# Altium footprint library MOS motor driving module .PcbLib: 19 footprints (part 2 of 2)
Each footprint in its own frame and in the unit in brackets; x right, y up, seen from the top. Pads: shape width x height; smd on the part's side, far side on the other; paste and mask are expansions set on the pad; w line width, h text height; cw(c..) or ccw(c..) is an arc to the next point about the centre after c.
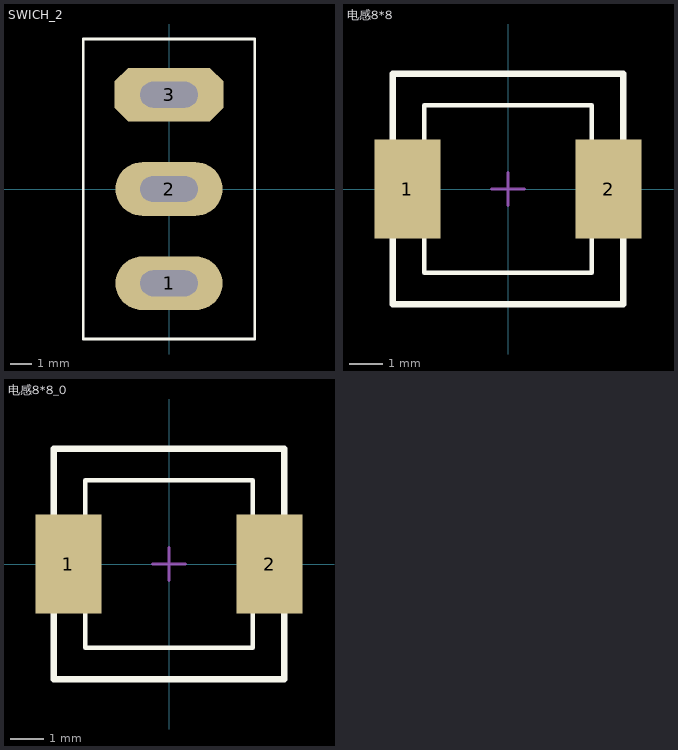
[diagram p1: the footprints below, top view; thin cyan lines are the x and y axes]

## SWICH_2 [mm]
pads (3):
  oval 5x2.5 hole 1.2 slot 2.7 at 0 deg: 1(0,-4.4) 2(0,0)
  oct 5.08x2.5 hole 1.2 slot 2.7 at 0 deg: 3(0,4.4)
Top Overlay:
  lines w0.127: -4,-7 -4,7 4,7 4,-7 -4,-7

## 电感8*8 [mm]
pads (2):
  rect 2x3 smd: 1(-3.048,0) 2(3.048,0)
Top Overlay:
  lines w0.127: -2.54,-2.54 2.54,-2.54 2.54,2.54 -2.54,2.54 -2.54,-2.54
  lines w0.2: -3.5,-1.5 -3.5,-3.5 3.5,-3.5 3.5,-1.5 ; -3.5,1.5 -3.5,3.5 3.5,3.5 3.5,1.5
Mechanical 15:
  lines w0.1: -0.5,0 0.5,0 ; 0,-0.5 0,0.5

## 电感8*8_0 [mm]
pads (2):
  rect 2x3 smd: 1(-3.048,0) 2(3.048,0)
Top Overlay:
  lines w0.127: -2.54,-2.54 -2.54,2.54 2.54,2.54 2.54,-2.54 -2.54,-2.54
  lines w0.2: -3.5,-1.5 -3.5,-3.5 3.5,-3.5 3.5,-1.5 ; -3.5,1.5 -3.5,3.5 3.5,3.5 3.5,1.5
Mechanical 15:
  lines w0.1: -0.5,0 0.5,0 ; 0,-0.5 0,0.5